# Altium footprint library Conectors THC.PcbLib: 3 footprints
Each footprint in its own frame and in the unit in brackets; x right, y up, seen from the top. Pads: shape width x height; smd on the part's side, far side on the other; paste and mask are expansions set on the pad; w line width, h text height; cw(c..) or ccw(c..) is an arc to the next point about the centre after c.
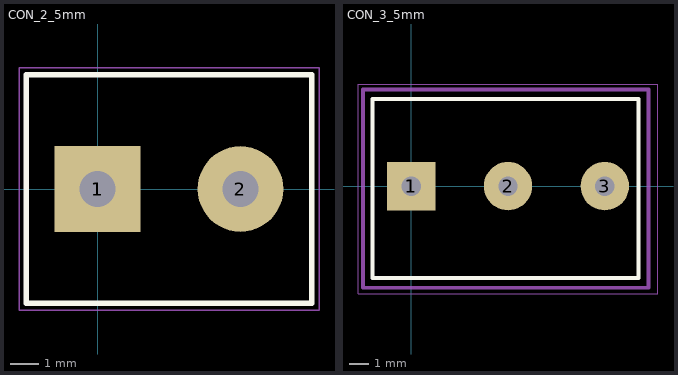
[diagram p0: the footprints below, top view; thin cyan lines are the x and y axes]

## CON_2_5mm [mm]
pads (3):
  round 3 hole 1.25: 1(0,0) 2(5,0)
  rect 3x3 smd: 1(0,0)
Top Overlay:
  lines w0.2: -2.5,-4 -2.5,4 7.5,4 7.5,-4 -2.5,-4
Mechanical 13:
  lines w0.1: -2.5,-4 -2.5,4 7.5,4 7.5,-4 -2.5,-4
Mechanical 15:
  lines w0.05: -2.75,-4.25 7.75,-4.25 7.75,4.25 -2.75,4.25 -2.75,-4.25
3D body "MB612-50002.stp": height 10.4, standoff -5, extent -2.5,-4.1 7.5,4

## CON_3_5mm [mm]
pads (4):
  round 2.5 hole 1: 1(0,0) 2(5,0) 3(10,0)
  rect 2.5x2.5 smd: 1(0,0)
Top Overlay:
  lines w0.2: -2,-4.75 -2,4.5 11.75,4.5 11.75,-4.75 -2,-4.75
Mechanical 13:
  lines w0.2: -2.5,-5.25 12.25,-5.25 12.25,5 -2.5,5 -2.5,-5.25
Mechanical 15:
  lines w0.05: -2.75,-5.55 12.75,-5.55 12.75,5.25 -2.75,5.25 -2.75,-5.55
3D body "CTB0102_3.stp": height 14, standoff -3.9, extent -2.625,-5.25 12.375,5.05

## PCBComponent_1 [mm]